# EAGLE library part LM78L05ACMX/NOPB (library LM78L05ACMX_NOPB)
100-mA, 30-V, linear voltage regulator 8-SOIC 0 to 125 Check availability <https://pricing.snapeda.com/parts/LM78L05ACMX/NOPB/Texas%20Instruments/view-part?ref=eda>
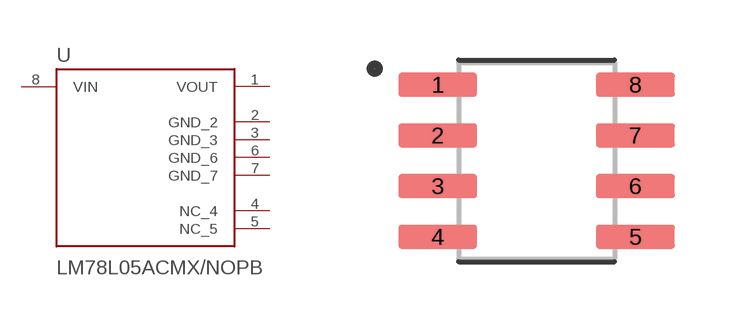
[diagram p0: symbol with the pads of SOIC127P599X175-8N; footprint SOIC127P599X175-8N]

Designator prefix U

## LM78L05ACMX/NOPB (Availability: In Stock; Description: 100-mA, 30-V, linear voltage regulator 8-SOIC 0 to 125; MF: Texas Instruments; MP: LM78L05ACMX/NOPB; Package: SOIC-8 Texas Instruments; Price: None; Purchase-URL: https://pricing.snapeda.com/search/part/LM78L05ACMX/NOPB/?ref=eda)  [SOIC127P599X175-8N]
1  VOUT  out
2  GND_2  pwr
3  GND_3  pwr
4  NC_4  pwr
5  NC_5  pwr
6  GND_6  pwr
7  GND_7  pwr
8  VIN  in

## Footprint SOIC127P599X175-8N (pad centres in mm)
smd 1.97 x 0.6: 1 -2.47,1.905; 2 -2.47,0.635; 3 -2.47,-0.635; 4 -2.47,-1.905; 5 2.47,-1.905; 6 2.47,-0.635; 7 2.47,0.635; 8 2.47,1.905